# Altium schematic symbol library ET60T-D05-3-08-D05-L-R1-S.SchLib: 1 symbol
Pins are listed as number, name and electrical type; pins without a type are passive.

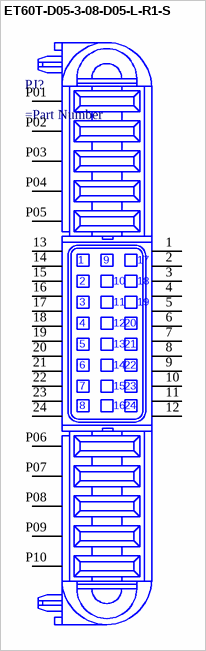
[diagram p0: symbol ET60T-D05-3-08-D05-L-R1-S]

## ET60T-D05-3-08-D05-L-R1-S
designator PJ?
=Description
footprint ET60T-D05-3-08-D05-L-R1-S
pins: 1 (power), 2 (power), 3 (power), 4 (power), 5 (power), 6 (power), 7 (power), 8 (power), 9 (power), 10 (power), 11 (power), 12 (power), 13 (power), 14 (power), 15 (power), 16 (power), 17 (power), 18 (power), 19 (power), 20 (power), 21 (power), 22 (power), 23 (power), 24 (power), P01 (power), P02 (power), P03 (power), P04 (power), P05 (power), P06 (power), P07 (power), P08 (power), P09 (power), P10 (power)